# Altium schematic symbol library m68k.SchLib: 102 symbols (part 1 of 3)
Pins are listed as number, name and electrical type; pins without a type are passive.

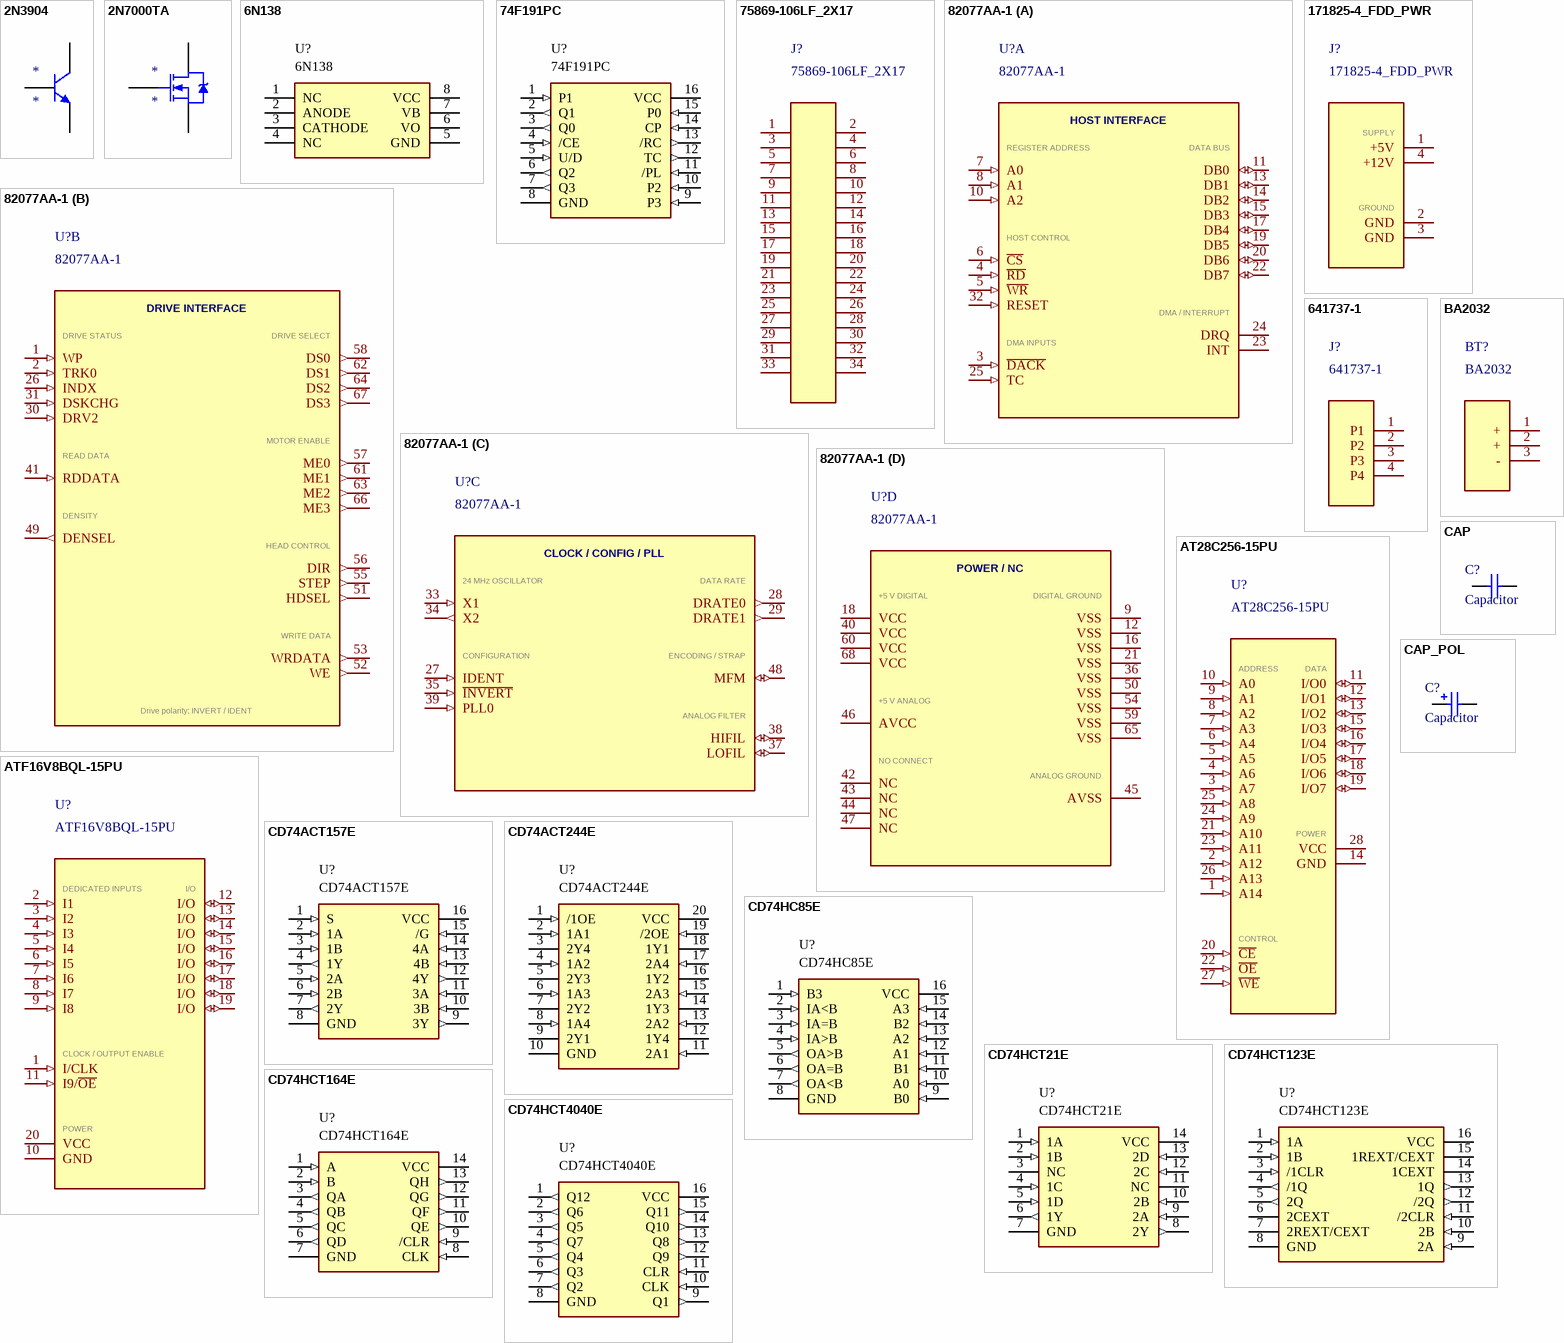
[diagram p0: symbols 2N3904 to CD74HCT4040E]

## 2N3904
designator *
footprint TO-92-3
pins: 1 E, 2 B, 3 C

## 2N7000TA
designator *
footprint TO-92-3
pins: 1 S, 2 G, 3 D

## 6N138
designator U?
High-gain optocoupler; SourcePDF: AV02-1359EN.pdf; SourcePages: 2; ReviewNotes: Output modeled as open collector; VB is analog base access.; ReviewStatus: DRAFT - user review pending; Package: DIP-8
footprint 110-93-308-41-001000 (Mill-Max 110 open-frame DIP socket; 8 pins; pitch 2.54mm; row 7.62mm; plated hole 0.80mm; pad 1.60mm; center origin)
pins: 1 NC, 2 ANODE, 3 CATHODE, 4 NC, 5 GND (power), 6 VO (oc), 7 VB, 8 VCC (power)

## 74F191PC
designator U?
Synchronous up/down binary counter; SourcePDF: fairchild-fast-1980.pdf; SourcePages: 116; ReviewNotes: Draft symbol; user pinout review pending.; ReviewStatus: DRAFT - user review pending; Package: DIP-16
footprint 110-93-316-41-001000 (Mill-Max 110 open-frame DIP socket; 16 pins; pitch 2.54mm; row 7.62mm; plated hole 0.80mm; pad 1.60mm; center origin)
pins: 1 P1 (in), 2 Q1 (out), 3 Q0 (out), 4 /CE (in), 5 U/D (in), 6 Q2 (out), 7 Q3 (out), 8 GND (power), 9 P3 (in), 10 P2 (in), 11 /PL (in), 12 TC (out), 13 /RC (out), 14 CP (in), 15 P0 (in), 16 VCC (power)

## 75869-106LF_2X17
designator J?
Amphenol FCI Quickie 75869-106LF shrouded header, 2x17 = 34 pos, 2.54 mm, vertical THT. Generic pin symbol: odd pins left, even pins right, as on the connector.; Manufacturer: Amphenol FCI; Manufacturer Part Number: 75869-106LF; Package: 2x17 shrouded header, 2.54 mm, keyed; Datasheet: Amphenol Quickie Shrouded Headers Low Profile brochure BWBQUICKIDC0122EA4
footprint AMPHENOL_75869-106LF (Amphenol FCI Quickie 75869-106LF shrouded header, low profile, vertical THT, 2x17 = 34 pos, 2.54 mm. Top view; origin = centre of pin field. Odd pins row at -Y, pin 1 at -X; polarization key slot on odd-row side.)
pins: 1 P1, 2 P2, 3 P3, 4 P4, 5 P5, 6 P6, 7 P7, 8 P8, 9 P9, 10 P10, 11 P11, 12 P12, 13 P13, 14 P14, 15 P15, 16 P16, 17 P17, 18 P18, 19 P19, 20 P20, 21 P21, 22 P22, 23 P23, 24 P24, 25 P25, 26 P26, 27 P27, 28 P28, 29 P29, 30 P30, 31 P31, 32 P32, 33 P33, 34 P34

## 82077AA-1
designator U?
Intel 82077AA-1 floppy-disk controller, 68-pin PLCC. Four functional symbol parts; all physical pins visible.; Symbol Parts: A: HOST; B: DRIVE; C: CLOCK / CONFIG / PLL; D: POWER / NC; Pin Source: Supplied 68-pin diagram; Intel 290166-007, Figure 1 and Table 1.; Polarity: Host CS, RD, WR, DACK are active-low. RESET is active-high. Drive-signal polarity is configurable. See pin descriptions.; Manufacturer: Intel; Manufacturer Part Number: 82077AA-1; Package: 68-pin PLCC; Datasheet: https://www.ardent-tool.com/datasheets/Intel_82077AA.pdf
footprint A-CCS-068-Z-T (Assmann A-CCS 068-Z-T, PLCC-68 THT socket for MC68EC000; ASS 0981 CO rev11; body 30.80 x 30.80 mm; 2.54 mm PCB grid; 68 plated 0.80 mm holes / 1.60 mm pads; pin 1 top center, top view; M2 component outline, M9 assembly, M11 designator, M15 courtyard; user component layer pairs; maximum height 8.43 mm.)
part A pins: 3 ~{DACK} (in), 4 ~{RD} (in), 5 ~{WR} (in), 6 ~{CS} (in), 7 A0 (in), 8 A1 (in), 10 A2 (in), 11 DB0 (io), 13 DB1 (io), 14 DB2 (io), 15 DB3 (io), 17 DB4 (io), 19 DB5 (io), 20 DB6 (io), 22 DB7 (io), 23 INT (hiz) "Gated three-state interrupt output.", 24 DRQ (hiz) "Gated three-state DMA request.", 25 TC (in) "Terminal count: high-active in AT/Model 30; low-active in PS/2.", 32 RESET (in) "Active-high hardware reset."
part B pins: 1 WP (in), 2 TRK0 (in), 26 INDX (in), 30 DRV2 (in), 31 DSKCHG (in), 41 RDDATA (in), 49 DENSEL (out) "Density-output polarity depends on IDENT and INVERT.", 51 HDSEL (out), 52 WE (out), 53 WRDATA (out), 55 STEP (out), 56 DIR (out), 57 ME0 (out), 58 DS0 (out), 61 ME1 (out), 62 DS1 (out), 63 ME2 (out), 64 DS2 (out), 66 ME3 (out), 67 DS3 (out)
part C pins: 27 IDENT (in) "Host-mode strap; also selects DENSEL polarity.", 28 DRATE0 (out), 29 DRATE1 (out), 33 X1 (in) "Crystal input or external clock input.", 34 X2 (out) "Crystal oscillator output; unused with external clock.", 35 ~{INVERT} (in) "Low selects internal cable inversion; high requires external inverting buffers.", 37 LOFIL (io) "Analog filter return, paired with HIFIL.", 38 HIFIL (io) "Analog reference; external filter capacitor to LOFIL.", 39 PLL0 (in) "High: floppy separator; low: tape separator.", 48 MFM (io) "Reset-time mode input; encoding-status output afterward."
part D pins: 9 VSS (power), 12 VSS (power), 16 VSS (power), 18 VCC (power), 21 VSS (power), 36 VSS (power), 40 VCC (power), 42 NC "Leave unconnected.", 43 NC "Leave unconnected.", 44 NC "Leave unconnected.", 45 AVSS (power), 46 AVCC (power), 47 NC "Leave unconnected.", 50 VSS (power), 54 VSS (power), 59 VSS (power), 60 VCC (power), 65 VSS (power), 68 VCC (power)
part A text: HOST INTERFACE; REGISTER ADDRESS; DATA BUS; HOST CONTROL; DMA / INTERRUPT; DMA INPUTS
part B text: DRIVE INTERFACE; DRIVE STATUS; DRIVE SELECT; MOTOR ENABLE; READ DATA; DENSITY; HEAD CONTROL; WRITE DATA; Drive polarity: INVERT / IDENT
part C text: CLOCK / CONFIG / PLL; 24 MHz OSCILLATOR; DATA RATE; CONFIGURATION; ENCODING / STRAP; ANALOG FILTER
part D text: POWER / NC; +5 V DIGITAL; DIGITAL GROUND; +5 V ANALOG; NO CONNECT; ANALOG GROUND

## 171825-4_FDD_PWR
designator J?
TE Connectivity (AMP) 171825-4 EI series 4-pos 2.5 mm vertical post header, mates with 171822-4. 3.5 in floppy drive power pinout.; Manufacturer: TE Connectivity; Manufacturer Part Number: 171825-4; Package: AMP EI 1x4 2.5 mm vertical THT; Datasheet: TE drawing C-171825 rev Y4
footprint TE_171825-4 (TE Connectivity (AMP) 171825-4 EI series post header, 4 pos, 2.5 mm, vertical THT. Top view; origin = centre of pin row; latch wall at +Y; pin 1 at -X (end not defined on TE drawing - verify against mating 171822-4 cable).)
pins: 1 +5V "+5 V to drive (red wire)", 2 GND "Ground (black wire)", 3 GND "Ground (black wire)", 4 +12V "+12 V to drive (yellow wire)"
text: SUPPLY; GROUND

## 641737-1
designator J?
TE Connectivity Commercial MATE-N-LOK PC header, right angle, 4 circuits, 0.200 in pitch, through-hole; Pin Source: TE drawing 641737 rev G2, front view contact numbering 1-4; Manufacturer: TE Connectivity; Manufacturer Part Number: 641737-1; Package: RA THT header, 4 pos, 5.08 mm pitch; Datasheet: TE customer drawing 641737 rev G2 (ECR-21-117185, 20OCT2021)
footprint TE_641737-1 (TE 641737-1 Commercial MATE-N-LOK RA PC header, 4 pos, 5.08 mm pitch, THT, for 1.6 mm (0.062 in) PCB)
pins: 1 P1, 2 P2, 3 P3, 4 P4

## AT28C256-15PU
designator U?
256K (32K x 8) Paged Parallel EEPROM, 150ns, 28-lead PDIP; Manufacturer: Microchip (Atmel); Manufacturer Part Number: AT28C256-15PU; Package: 28-lead PDIP; Datasheet: https://ww1.microchip.com/downloads/en/DeviceDoc/doc0006.pdf
footprint 110-93-624-41-001000 (Mill-Max 110 open-frame DIP socket; 24 pins; pitch 2.54mm; row 15.24mm; plated hole 0.80mm; pad 1.60mm; center origin)
pins: 1 A14 (in), 2 A12 (in), 3 A7 (in), 4 A6 (in), 5 A5 (in), 6 A4 (in), 7 A3 (in), 8 A2 (in), 9 A1 (in), 10 A0 (in), 11 I/O0 (io), 12 I/O1 (io), 13 I/O2 (io), 14 GND (power), 15 I/O3 (io), 16 I/O4 (io), 17 I/O5 (io), 18 I/O6 (io), 19 I/O7 (io), 20 ~{CE} (in) "Chip Enable, active low", 21 A10 (in), 22 ~{OE} (in) "Output Enable, active low", 23 A11 (in), 24 A9 (in), 25 A8 (in), 26 A13 (in), 27 ~{WE} (in) "Write Enable, active low", 28 VCC (power)
text: ADDRESS; DATA; POWER; CONTROL

## ATF16V8BQL-15PU
designator U?
High-performance EE PLD (PAL/GAL-architecture programmable logic, 8 inputs, 8 I/O macrocells), 15ns, quarter-power, 20-lead PDIP, Pb-free/RoHS (Green) package option; Manufacturer: Atmel / Microchip Technology; Manufacturer Part Number: ATF16V8BQL-15PU; Package: 20-lead, 0.300" wide plastic DIP (PDIP); Datasheet: Atmel-0364-PLD-ATF16V8B-8BQ-8BQL-Datasheet (ATF16V8B/ATF16V8BQ/ATF16V8BQL), Figure 2-2 Pin Configurations and Table 2-1 Pin Name / Ordering Information sections
footprint 110-93-320-41-001000 (Mill-Max 110 open-frame DIP socket; 20 pins; pitch 2.54mm; row 7.62mm; plated hole 0.80mm; pad 1.60mm; center origin)
pins: 1 I/CLK (in) "Dedicated input (combinatorial mode) or synchronous clock (registered mode)", 2 I1 (in), 3 I2 (in), 4 I3 (in), 5 I4 (in), 6 I5 (in), 7 I6 (in), 8 I7 (in), 9 I8 (in), 10 GND (power), 11 I9/~{OE} (in) "Dedicated input I9 (combinatorial mode) or Output Enable (registered mode) gating all 8 I/O tri-states. Active-low per universal 16V8-family convention, not explicitly stated in this datasheet", 12 I/O (io) "Programmable macrocell I/O; direction/polarity set by the fuse/EE program. Datasheet labels all 8 generically as I/O, no per-pin suffix", 13 I/O (io), 14 I/O (io), 15 I/O (io), 16 I/O (io), 17 I/O (io), 18 I/O (io), 19 I/O (io), 20 VCC (power) "+5V supply"
text: DEDICATED INPUTS; CLOCK / OUTPUT ENABLE; POWER

## BA2032
designator BT?
Memory Protection Devices (MPD) BA2032 coin cell holder for CR2032, THT. Pins 1 and 2 are the two positive-contact tails; pin 3 is the negative contact.; Manufacturer: Memory Protection Devices; Manufacturer Part Number: BA2032; Package: Coin cell holder 28.0 x 16.0 mm, 3 pin THT; Datasheet: MPD drawing BA2032 rev L, 08/17/22
footprint MPD_BA2032 (MPD BA2032 CR2032 coin cell holder, THT. Top view; origin = body centre; negative at -X, positive (2 tails) at +X.)
pins: 1 + "Positive contact (tail 1 of 2)", 2 + "Positive contact (tail 2 of 2)", 3 - "Negative contact"

## CAP
designator C?, comment Capacitor
pins: 1, 2

## CAP_POL
designator C?, comment Capacitor
pins: +, -

## CD74ACT157E
designator U?
Quad 2-to-1 multiplexer; SourcePDF: cd74act157.pdf; SourcePages: 3; ReviewNotes: DIP map; review active-low notation and electrical types before PCB use.; ReviewStatus: DRAFT - user review pending; Package: DIP-16
footprint 110-93-316-41-001000 (Mill-Max 110 open-frame DIP socket; 16 pins; pitch 2.54mm; row 7.62mm; plated hole 0.80mm; pad 1.60mm; center origin)
pins: 1 S (in), 2 1A (in), 3 1B (in), 4 1Y (out), 5 2A (in), 6 2B (in), 7 2Y (out), 8 GND (power), 9 3Y (out), 10 3B (in), 11 3A (in), 12 4Y (out), 13 4B (in), 14 4A (in), 15 /G (in), 16 VCC (power)

## CD74ACT244E
designator U?
Octal non-inverting tri-state buffer; SourcePDF: cd74act244.pdf; SourcePages: 3; ReviewNotes: DIP map; review active-low notation and electrical types before PCB use.; ReviewStatus: DRAFT - user review pending; Package: DIP-20
footprint 110-93-320-41-001000 (Mill-Max 110 open-frame DIP socket; 20 pins; pitch 2.54mm; row 7.62mm; plated hole 0.80mm; pad 1.60mm; center origin)
pins: 1 /1OE (in), 2 1A1 (in), 3 2Y4 (hiz), 4 1A2 (in), 5 2Y3 (hiz), 6 1A3 (in), 7 2Y2 (hiz), 8 1A4 (in), 9 2Y1 (hiz), 10 GND (power), 11 2A1 (in), 12 1Y4 (hiz), 13 2A2 (in), 14 1Y3 (hiz), 15 2A3 (in), 16 1Y2 (hiz), 17 2A4 (in), 18 1Y1 (hiz), 19 /2OE (in), 20 VCC (power)

## CD74HC85E
designator U?
4-bit magnitude comparator; SourcePDF: cd74hc85.pdf; SourcePages: 3; ReviewNotes: DIP map; review active-low notation and electrical types before PCB use.; ReviewStatus: DRAFT - user review pending; Package: DIP-16
footprint 110-93-316-41-001000 (Mill-Max 110 open-frame DIP socket; 16 pins; pitch 2.54mm; row 7.62mm; plated hole 0.80mm; pad 1.60mm; center origin)
pins: 1 B3 (in), 2 IA<B (in), 3 IA=B (in), 4 IA>B (in), 5 OA>B (out), 6 OA=B (out), 7 OA<B (out), 8 GND (power), 9 B0 (in), 10 A0 (in), 11 B1 (in), 12 A1 (in), 13 A2 (in), 14 B2 (in), 15 A3 (in), 16 VCC (power)

## CD74HCT21E
designator U?
Dual 4-input AND; SourcePDF: cd74hct21.pdf; SourcePages: 3; ReviewNotes: DIP map; review active-low notation and electrical types before PCB use.; ReviewStatus: DRAFT - user review pending; Package: DIP-14
footprint 110-93-314-41-001000 (Mill-Max 110 open-frame DIP socket; 14 pins; pitch 2.54mm; row 7.62mm; plated hole 0.80mm; pad 1.60mm; center origin)
pins: 1 1A (in), 2 1B (in), 3 NC, 4 1C (in), 5 1D (in), 6 1Y (out), 7 GND (power), 8 2Y (out), 9 2A (in), 10 2B (in), 11 NC, 12 2C (in), 13 2D (in), 14 VCC (power)

## CD74HCT123E
designator U?
Dual retriggerable monostable; SourcePDF: cd74hc123.pdf; SourcePages: pin configuration; ReviewNotes: Draft symbol; user pinout review pending.; ReviewStatus: DRAFT - user review pending; Package: DIP-16
footprint 110-93-316-41-001000 (Mill-Max 110 open-frame DIP socket; 16 pins; pitch 2.54mm; row 7.62mm; plated hole 0.80mm; pad 1.60mm; center origin)
pins: 1 1A (in), 2 1B (in), 3 /1CLR (in), 4 /1Q (out), 5 2Q (out), 6 2CEXT, 7 2REXT/CEXT, 8 GND (power), 9 2A (in), 10 2B (in), 11 /2CLR (in), 12 /2Q (out), 13 1Q (out), 14 1CEXT, 15 1REXT/CEXT, 16 VCC (power)

## CD74HCT164E
designator U?
8-bit serial-in parallel-out shift register; SourcePDF: cd74hc164.pdf; SourcePages: pin configuration; ReviewNotes: Draft symbol; user pinout review pending.; ReviewStatus: DRAFT - user review pending; Package: DIP-14
footprint 110-93-314-41-001000 (Mill-Max 110 open-frame DIP socket; 14 pins; pitch 2.54mm; row 7.62mm; plated hole 0.80mm; pad 1.60mm; center origin)
pins: 1 A (in), 2 B (in), 3 QA (out), 4 QB (out), 5 QC (out), 6 QD (out), 7 GND (power), 8 CLK (in), 9 /CLR (in), 10 QE (out), 11 QF (out), 12 QG (out), 13 QH (out), 14 VCC (power)

## CD74HCT4040E
designator U?
12-stage binary ripple counter; SourcePDF: cd74hct4040.pdf; SourcePages: 3; ReviewNotes: DIP map; review active-low notation and electrical types before PCB use.; ReviewStatus: DRAFT - user review pending; Package: DIP-16
footprint 110-93-316-41-001000 (Mill-Max 110 open-frame DIP socket; 16 pins; pitch 2.54mm; row 7.62mm; plated hole 0.80mm; pad 1.60mm; center origin)
pins: 1 Q12 (out), 2 Q6 (out), 3 Q5 (out), 4 Q7 (out), 5 Q4 (out), 6 Q3 (out), 7 Q2 (out), 8 GND (power), 9 Q1 (out), 10 CLK (in), 11 CLR (in), 12 Q9 (out), 13 Q8 (out), 14 Q10 (out), 15 Q11 (out), 16 VCC (power)

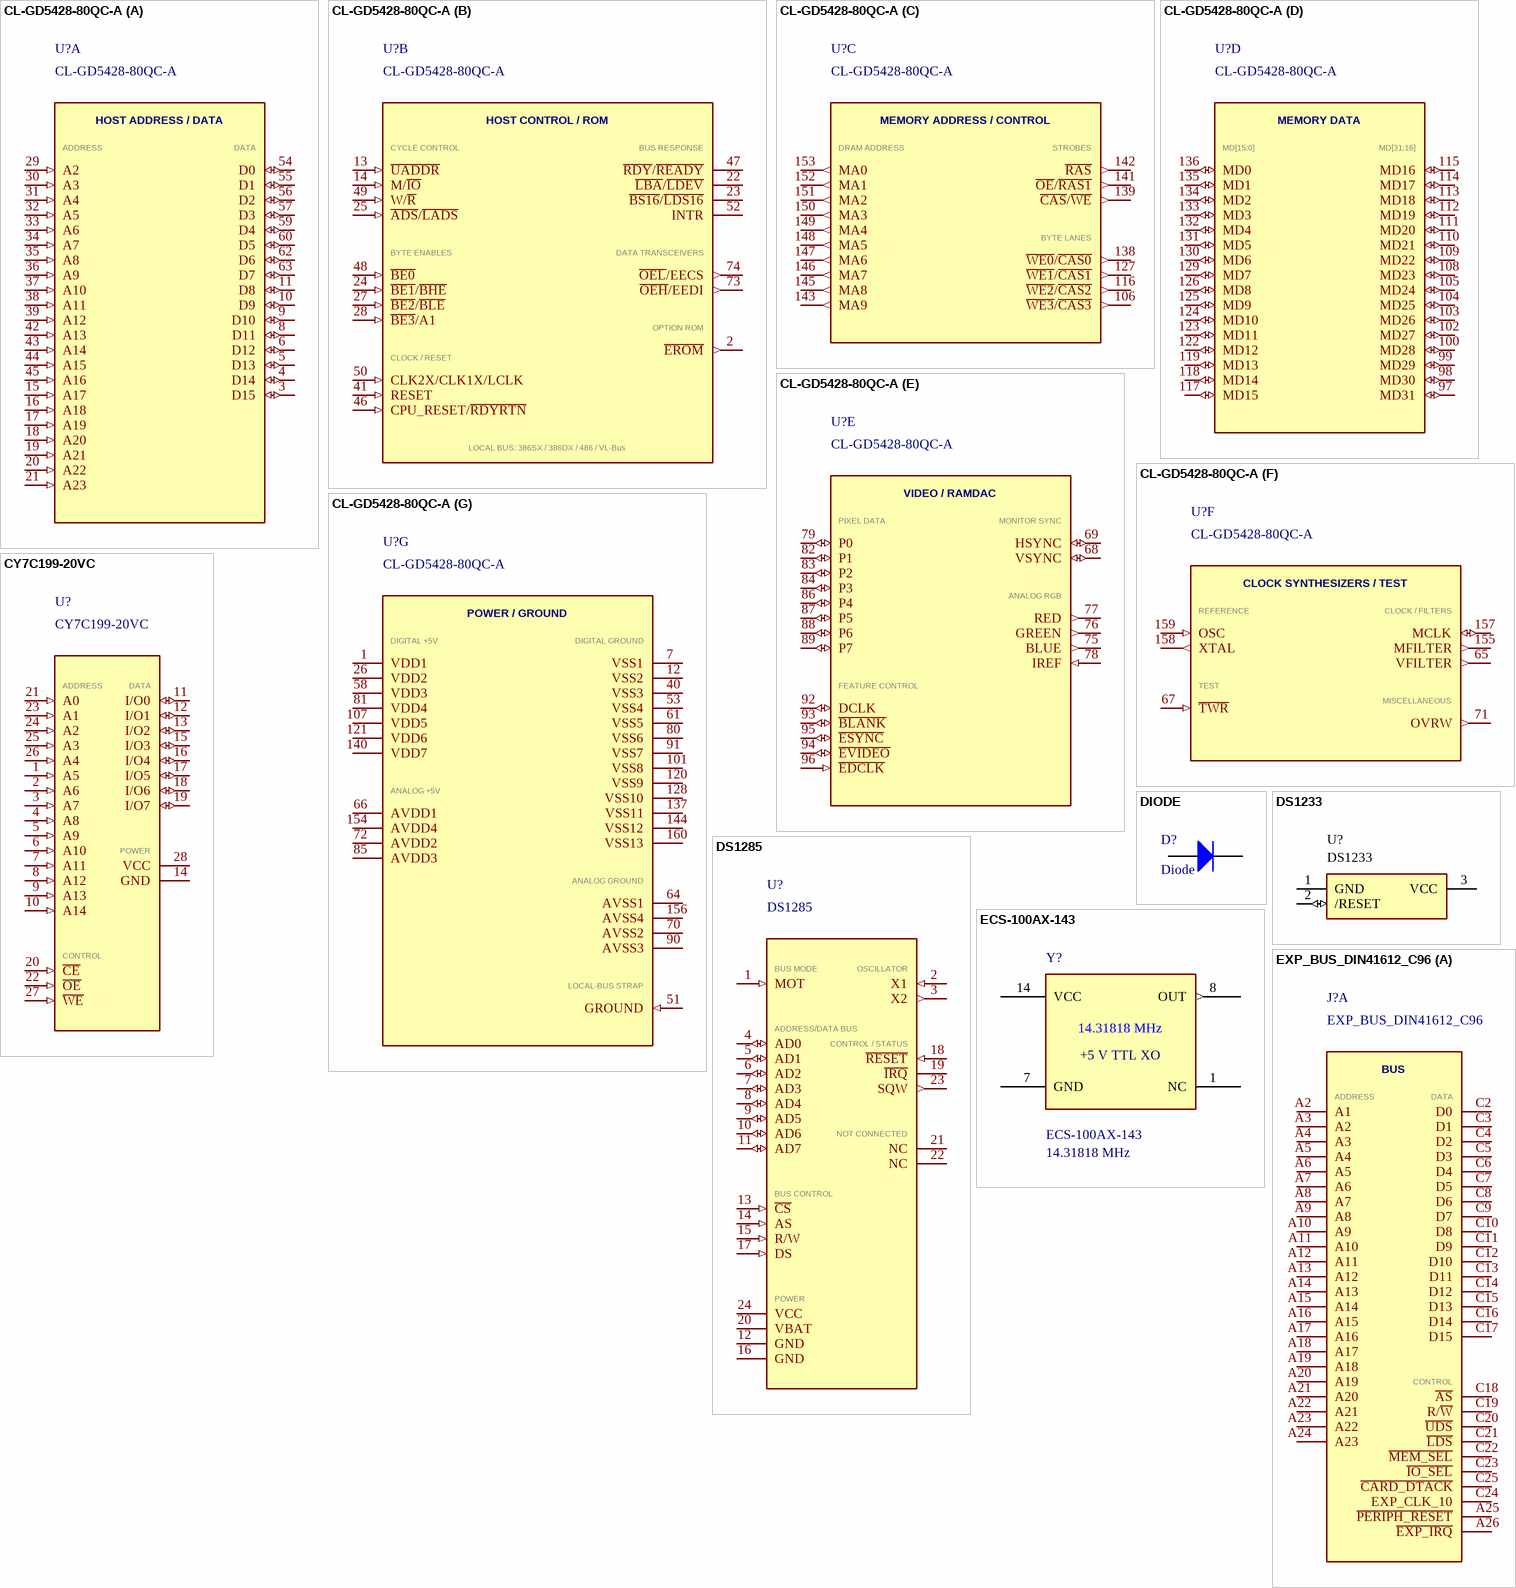
[diagram p1: symbols CL-GD5428-80QC-A to EXP_BUS_DIN41612_C96]

## CL-GD5428-80QC-A
designator U?
Cirrus Logic CL-GD5428-80QC-A, 160-pin PQFP; local-bus interface with 386SX/386DX/486/VL-Bus aliases; seven functional parts.; Symbol Parts: A: HOST ADDRESS / DATA; B: HOST CONTROL / ROM; C: MEMORY ADDRESS / CONTROL; D: MEMORY DATA; E: VIDEO / RAMDAC; F: CLOCK SYNTHESIZERS / TEST; G: POWER / GROUND; Host Interface: Local bus (386SX, 386DX, 486, VESA VL-Bus); not ISA/MCA pin functions.; Pin Source: User-supplied pin tables 1-2 through 1-7; electrical types refined using detailed descriptions for GD5428.; Manufacturer: Cirrus Logic; Manufacturer Part Number: CL-GD5428-80QC-A; Package: 160-pin PQFP; Datasheet: https://bitsavers.trailing-edge.com/components/cirrusLogic/graphics/CL-GD542X_Preliminary_Data_Book_199505.pdf
footprint QFP65P3120X3120X407-160N (QFP, 160-Leads, Body 28.00x28.00mm, Pitch 0.65mm, IPC Medium Density)
part A pins: 3 D15 (io), 4 D14 (io), 5 D13 (io), 6 D12 (io), 8 D11 (io), 9 D10 (io), 10 D9 (io), 11 D8 (io), 15 A17 (in), 16 A18 (in), 17 A19 (in), 18 A20 (in), 19 A21 (in), 20 A22 (in), 21 A23 (in), 29 A2 (in), 30 A3 (in), 31 A4 (in), 32 A5 (in), 33 A6 (in), 34 A7 (in), 35 A8 (in), 36 A9 (in), 37 A10 (in), 38 A11 (in), 39 A12 (in), 42 A13 (in), 43 A14 (in), 44 A15 (in), 45 A16 (in), 54 D0 (io), 55 D1 (io), 56 D2 (io), 57 D3 (io), 59 D4 (io), 60 D5 (io), 62 D6 (io), 63 D7 (io)
part B pins: 2 ~{EROM} (out) "Active-low expansion ROM enable.", 13 ~{UADDR} (in) "Unused in 386SX mode; upper-address decode input in 386DX/486/VL-Bus modes.", 14 M/~{IO} (in) "High selects memory; low selects I/O.", 22 ~{LBA}/~{LDEV} (oc) "Open-collector local bus acknowledge; LDEV# in VL-Bus mode.", 23 ~{BS16}/~{LDS16} (oc) "Open-collector 16-bit resource indication. Unused in 386SX; LDS16# in table 1-2 VL-Bus column.", 24 ~{BE1}/~{BHE} (in) "BE1# in 386DX/486/VL-Bus; BHE# in 386SX.", 25 ~{ADS}/~{LADS} (in) "ADS# in 386SX/386DX/486 modes; LADS# in VL-Bus mode.", 27 ~{BE2}/~{BLE} (in) "BE2# in 386DX/486/VL-Bus; BLE# in 386SX.", 28 ~{BE3}/A1 (in) "BE3# in 386DX/486/VL-Bus; A1 in 386SX.", 41 RESET (in) "Active-high configuration reset; falling edge latches configuration from MD30..MD16.", 46 CPU_RESET/~{RDYRTN} (in) "CPU reset in 386SX/DX; tie to GND in 486 mode; RDYRTN# in VL-Bus.", 47 ~{RDY}/~{READY} (hiz) "READY# in 386SX/DX; RDY# in 486/VL-Bus. Tri-state cycle-completion output.", 48 ~{BE0} (in) "Unused in 386SX mode.", 49 W/~{R} (in) "High selects write; low selects read.", 50 CLK2X/CLK1X/LCLK (in) "CLK2X: 386SX/DX; CLK1X: 486; LCLK: VL-Bus.", 52 INTR (hiz) "Active-high vertical interrupt; tri-state output.", 73 ~{OEH}/EEDI (out) "Local-bus high-word data-transceiver output enable. EEDI is an INPUT only in ISA/MCA modes.", 74 ~{OEL}/EECS (out) "Local-bus low-word data-transceiver output enable. EECS function is for ISA/MCA modes."
part C pins: 106 ~{WE3}/~{CAS3} (out) "WE3#; becomes CAS3# with multiple-CAS DRAMs.", 116 ~{WE2}/~{CAS2} (out) "WE2#; becomes CAS2# with multiple-CAS DRAMs.", 127 ~{WE1}/~{CAS1} (out) "WE1#; becomes CAS1# with multiple-CAS DRAMs.", 138 ~{WE0}/~{CAS0} (out) "WE0#; becomes CAS0# with multiple-CAS DRAMs.", 139 ~{CAS}/~{WE} (out) "Column-address strobe; becomes WE# with multiple-CAS DRAMs.", 141 ~{OE}/~{RAS1} (out) "Output enable; becomes RAS1# for 2-Mbyte configurations.", 142 ~{RAS} (out) "DRAM row-address strobe; RAS0# for two-bank memory.", 143 MA9 (out), 145 MA8 (out), 146 MA7 (out), 147 MA6 (out), 148 MA5 (out), 149 MA4 (out), 150 MA3 (out), 151 MA2 (out), 152 MA1 (out), 153 MA0 (out)
part D pins: 97 MD31 (io) "Display-memory data; MD30..MD16 also provide reset-time configuration straps.", 98 MD30 (io) "Display-memory data; MD30..MD16 also provide reset-time configuration straps.", 99 MD29 (io) "Display-memory data; MD30..MD16 also provide reset-time configuration straps.", 100 MD28 (io) "Display-memory data; MD30..MD16 also provide reset-time configuration straps.", 102 MD27 (io) "Display-memory data; MD30..MD16 also provide reset-time configuration straps.", 103 MD26 (io) "Display-memory data; MD30..MD16 also provide reset-time configuration straps.", 104 MD25 (io) "Display-memory data; MD30..MD16 also provide reset-time configuration straps.", 105 MD24 (io) "Display-memory data; MD30..MD16 also provide reset-time configuration straps.", 108 MD23 (io) "Display-memory data; MD30..MD16 also provide reset-time configuration straps.", 109 MD22 (io) "Display-memory data; MD30..MD16 also provide reset-time configuration straps.", 110 MD21 (io) "Display-memory data; MD30..MD16 also provide reset-time configuration straps.", 111 MD20 (io) "Display-memory data; MD30..MD16 also provide reset-time configuration straps.", 112 MD19 (io) "Display-memory data; MD30..MD16 also provide reset-time configuration straps.", 113 MD18 (io) "Display-memory data; MD30..MD16 also provide reset-time configuration straps.", 114 MD17 (io) "Display-memory data; MD30..MD16 also provide reset-time configuration straps.", 115 MD16 (io) "Display-memory data; MD30..MD16 also provide reset-time configuration straps.", 117 MD15 (io), 118 MD14 (io), 119 MD13 (io), 122 MD12 (io), 123 MD11 (io), 124 MD10 (io), 125 MD9 (io), 126 MD8 (io), 129 MD7 (io), 130 MD6 (io), 131 MD5 (io), 132 MD4 (io), 133 MD3 (io), 134 MD2 (io), 135 MD1 (io), 136 MD0 (io)
part E pins: 68 VSYNC (io) "Programmable-polarity vertical sync; I/O per table 1-4. Output buffer is high impedance when ESYNC# is low.", 69 HSYNC (io) "Programmable-polarity horizontal sync; I/O per table 1-4. Output buffer is high impedance when ESYNC# is low.", 75 BLUE (out) "Analog blue current output.", 76 GREEN (out) "Analog green current output.", 77 RED (out) "Analog red current output.", 78 IREF (in) "Analog DAC current-reference input.", 79 P0 (io), 82 P1 (io), 83 P2 (io), 84 P3 (io), 86 P4 (io), 87 P5 (io), 88 P6 (io), 89 P7 (io), 92 DCLK (io) "Bidirectional feature-connector dot clock.", 93 ~{BLANK} (io) "Bidirectional blanking signal.", 94 ~{EVIDEO} (io) "External pixel-video buffer control; I/O classification follows table 1-4. Normally used as an input.", 95 ~{ESYNC} (io) "External sync/blank buffer control; I/O classification follows table 1-4. Normally used as an input on GD5428.", 96 ~{EDCLK} (in) "Active-low enable for external dot clock."
part F pins: 65 VFILTER (out) "Analog video-clock PLL filter connection.", 67 ~{TWR} (in) "Active-low factory-test latch load enable; pull high for normal operation.", 71 OVRW (out) "Active-high overlay-window output.", 155 MFILTER (out) "Analog memory-clock PLL filter connection.", 157 MCLK (io) "Memory clock output normally; input when configuration CF4 disables the internal oscillator.", 158 XTAL (out) "Crystal oscillator analog output on CL-GD5428. TTL input mode is CL-GD5425-only.", 159 OSC (in) "Reference oscillator input; crystal connects between OSC and XTAL."
part G pins: 1 VDD1 (power), 7 VSS1 (power), 12 VSS2 (power), 26 VDD2 (power), 40 VSS3 (power), 51 GROUND (in) "Tie to GND in every local-bus mode. This is the repurposed ISA 0WS pin, not a digital VSS supply pin.", 53 VSS4 (power), 58 VDD3 (power), 61 VSS5 (power), 64 AVSS1 (power) "Video-clock synthesizer ground.", 66 AVDD1 (power) "Video-clock synthesizer supply.", 70 AVSS2 (power) "DAC ground.", 72 AVDD2 (power) "DAC supply.", 80 VSS6 (power), 81 VDD4 (power), 85 AVDD3 (power) "DAC supply.", 90 AVSS3 (power) "DAC ground.", 91 VSS7 (power), 101 VSS8 (power), 107 VDD5 (power), 120 VSS9 (power), 121 VDD6 (power), 128 VSS10 (power), 137 VSS11 (power), 140 VDD7 (power), 144 VSS12 (power), 154 AVDD4 (power) "Memory-clock synthesizer supply.", 156 AVSS4 (power) "Memory-clock synthesizer ground.", 160 VSS13 (power)
part A text: HOST ADDRESS / DATA; ADDRESS; DATA
part B text: HOST CONTROL / ROM; CYCLE CONTROL; BUS RESPONSE; BYTE ENABLES; DATA TRANSCEIVERS; OPTION ROM; CLOCK / RESET; LOCAL BUS: 386SX / 386DX / 486 / VL-Bus
part C text: MEMORY ADDRESS / CONTROL; DRAM ADDRESS; STROBES; BYTE LANES
part D text: MEMORY DATA; MD[15:0]; MD[31:16]
part E text: VIDEO / RAMDAC; PIXEL DATA; MONITOR SYNC; ANALOG RGB; FEATURE CONTROL
part F text: CLOCK SYNTHESIZERS / TEST; REFERENCE; CLOCK / FILTERS; TEST; MISCELLANEOUS
part G text: POWER / GROUND; DIGITAL +5V; DIGITAL GROUND; ANALOG +5V; ANALOG GROUND; LOCAL-BUS STRAP

## CY7C199-20VC
designator U?
32K x 8 CMOS Static RAM, 20 ns, commercial, 28-pin 300-mil SOJ; Manufacturer: Cypress Semiconductor; Manufacturer Part Number: CY7C199-20VC; Package: SOJ-28 (300 mil)
footprint SOJ127P864X419-28M (SOJ, 28-Leads, Body 18.11x8.64mm, Pitch 1.27mm, IPC Low Density)
pins: 1 A5 (in), 2 A6 (in), 3 A7 (in), 4 A8 (in), 5 A9 (in), 6 A10 (in), 7 A11 (in), 8 A12 (in), 9 A13 (in), 10 A14 (in), 11 I/O0 (io) "High impedance unless the chip is selected, outputs enabled and WE HIGH", 12 I/O1 (io), 13 I/O2 (io), 14 GND (power), 15 I/O3 (io), 16 I/O4 (io), 17 I/O5 (io), 18 I/O6 (io), 19 I/O7 (io), 20 ~{CE} (in) "Chip enable, active LOW; device powers down when deselected", 21 A0 (in), 22 ~{OE} (in) "Output enable, active LOW", 23 A1 (in), 24 A2 (in), 25 A3 (in), 26 A4 (in), 27 ~{WE} (in) "Write enable, active LOW; write occurs when CE and WE are both LOW", 28 VCC (power)
text: ADDRESS; DATA; POWER; CONTROL

## DIODE
designator D?, comment Diode
pins: 1 A, 2 K

## DS1233
designator U?
5 V reset supervisor; SourcePDF: ds1233.pdf; SourcePages: 1; ReviewNotes: RESET is bidirectional: open-drain reset output plus pushbutton input.; ReviewStatus: DRAFT - user review pending; Package: TO-92
footprint TO-92-3
pins: 1 GND (power), 2 /RESET (io), 3 VCC (power)

## DS1285
designator U?
Real-Time Clock plus extended NV RAM, MC146818A/DS1287 bus-compatible (requires external 32.768kHz crystal and backup battery); Manufacturer: Dallas Semiconductor; Manufacturer Part Number: DS1285; Package: 24-pin plastic DIP (PDIP); Datasheet: https://www.analog.com/media/en/technical-documentation/data-sheets/DS12885-DS12C887A.pdf (pin-compatible successor family datasheet, PDIP pin table; base DS1285/DS1287 lacks the integrated crystal/battery so X1/X2/VBAT are active rather than N.C./internally-connected)
footprint 110-93-624-41-001000 (Mill-Max 110 open-frame DIP socket; 24 pins; pitch 2.54mm; row 15.24mm; plated hole 0.80mm; pad 1.60mm; center origin)
pins: 1 MOT (in) "Motorola/Intel bus timing selector, internal pulldown. Tied to VCC = Motorola timing; tied to GND or left open = Intel timing", 2 X1 (in) "32.768kHz crystal connection / input to oscillator; can accept an external oscillator signal", 3 X2 (out) "32.768kHz crystal connection / oscillator output; left unconnected if an external oscillator drives X1", 4 AD0 (io), 5 AD1 (io), 6 AD2 (io), 7 AD3 (io), 8 AD4 (io), 9 AD5 (io), 10 AD6 (io), 11 AD7 (io), 12 GND (power), 13 ~{CS} (in) "Chip select, active low. Must be held active during DS and AS (Motorola timing) or during DS and R/W (Intel timing)", 14 AS (in) "Address strobe, positive-going pulse; falling edge latches the address", 15 R/W (in) "Read/Write, mode-dependent: Motorola timing - high during DS = read, low during DS = write; Intel timing - active-low write enable, data latched on rising edge", 16 GND (power), 17 DS (in) "Data Strobe (Motorola timing, positive pulse) or Read/Output-Enable (Intel timing), depending on MOT", 18 ~{RESET} (in) "Active low reset; has no effect on the clock, calendar, or RAM contents", 19 ~{IRQ} (oc) "Active low interrupt request, open-drain output, requires external pull-up", 20 VBAT (power) "External battery backup supply", 21 NC "No connection on DS1285; reused as RCLR (RAM clear) on later A-suffix family variants", 22 NC "No connection", 23 SQW (out) "Square-wave output, selectable from one of 13 internal divider taps", 24 VCC (power)
text: BUS MODE; OSCILLATOR; ADDRESS/DATA BUS; CONTROL / STATUS; NOT CONNECTED; BUS CONTROL; POWER

## ECS-100AX-143
designator Y?  value 14.31818 MHz
Oscillator, XO 14.31818 MHz, +/-100 ppm, +5 V TTL, 10 TTL load, 14-DIP full size metal can, 4 leads, 0 to +70 C; Manufacturer: ECS Inc.; Frequency Stability: +/-100 ppm (0 to +70 C, inclusive of all conditions); Output Load: 10 TTL; Supply Voltage: 4.75 V to 5.25 V (5.0 V nom); Supply Current: 30 mA max; Output Symmetry: 40 % to 60 % at 1.4 V; Rise / Fall Time: 10 ns max (0.4 V to 2.4 V); Start-Up Time: 20 ms max; Manufacturer Part Number: ECS-100AX-143; Series: ECS-100X; Frequency: 14.31818 MHz; Output Type: TTL; Operating Temperature: 0 C to +70 C; Storage Temperature: -55 C to +125 C; Package / Case: 14-DIP, 4 leads, full size metal can; Mounting Type: Through Hole; Height: 5.88 mm max above board; RoHS: Compliant, Pb-free; Lifecycle Status: Not recommended for new designs (per datasheet); Component Kind: Standard; ComponentLink1Description: Manufacturer product page / datasheet; ComponentLink1URL: https://ecsxtal.com/products/oscillators/through-hole-oscillators/ecs-100x/; HelpURL: https://ecsxtal.com/products/oscillators/through-hole-oscillators/ecs-100x/
footprint OSC-DIP14-FULLSIZE (Clock oscillator, full size 14-DIP metal can, 4 leads on the 0.600" x 0.300" DIP-14 grid (pins 1, 7, 8, 14), body 20.86 x 13.20 x 5.08 mm)
pins: 1 NC "No connect", 7 GND (power) "Case ground (metal can)", 8 OUT (out) "TTL clock output", 14 VCC (power) "+5 VDC supply"
text: +5 V TTL XO

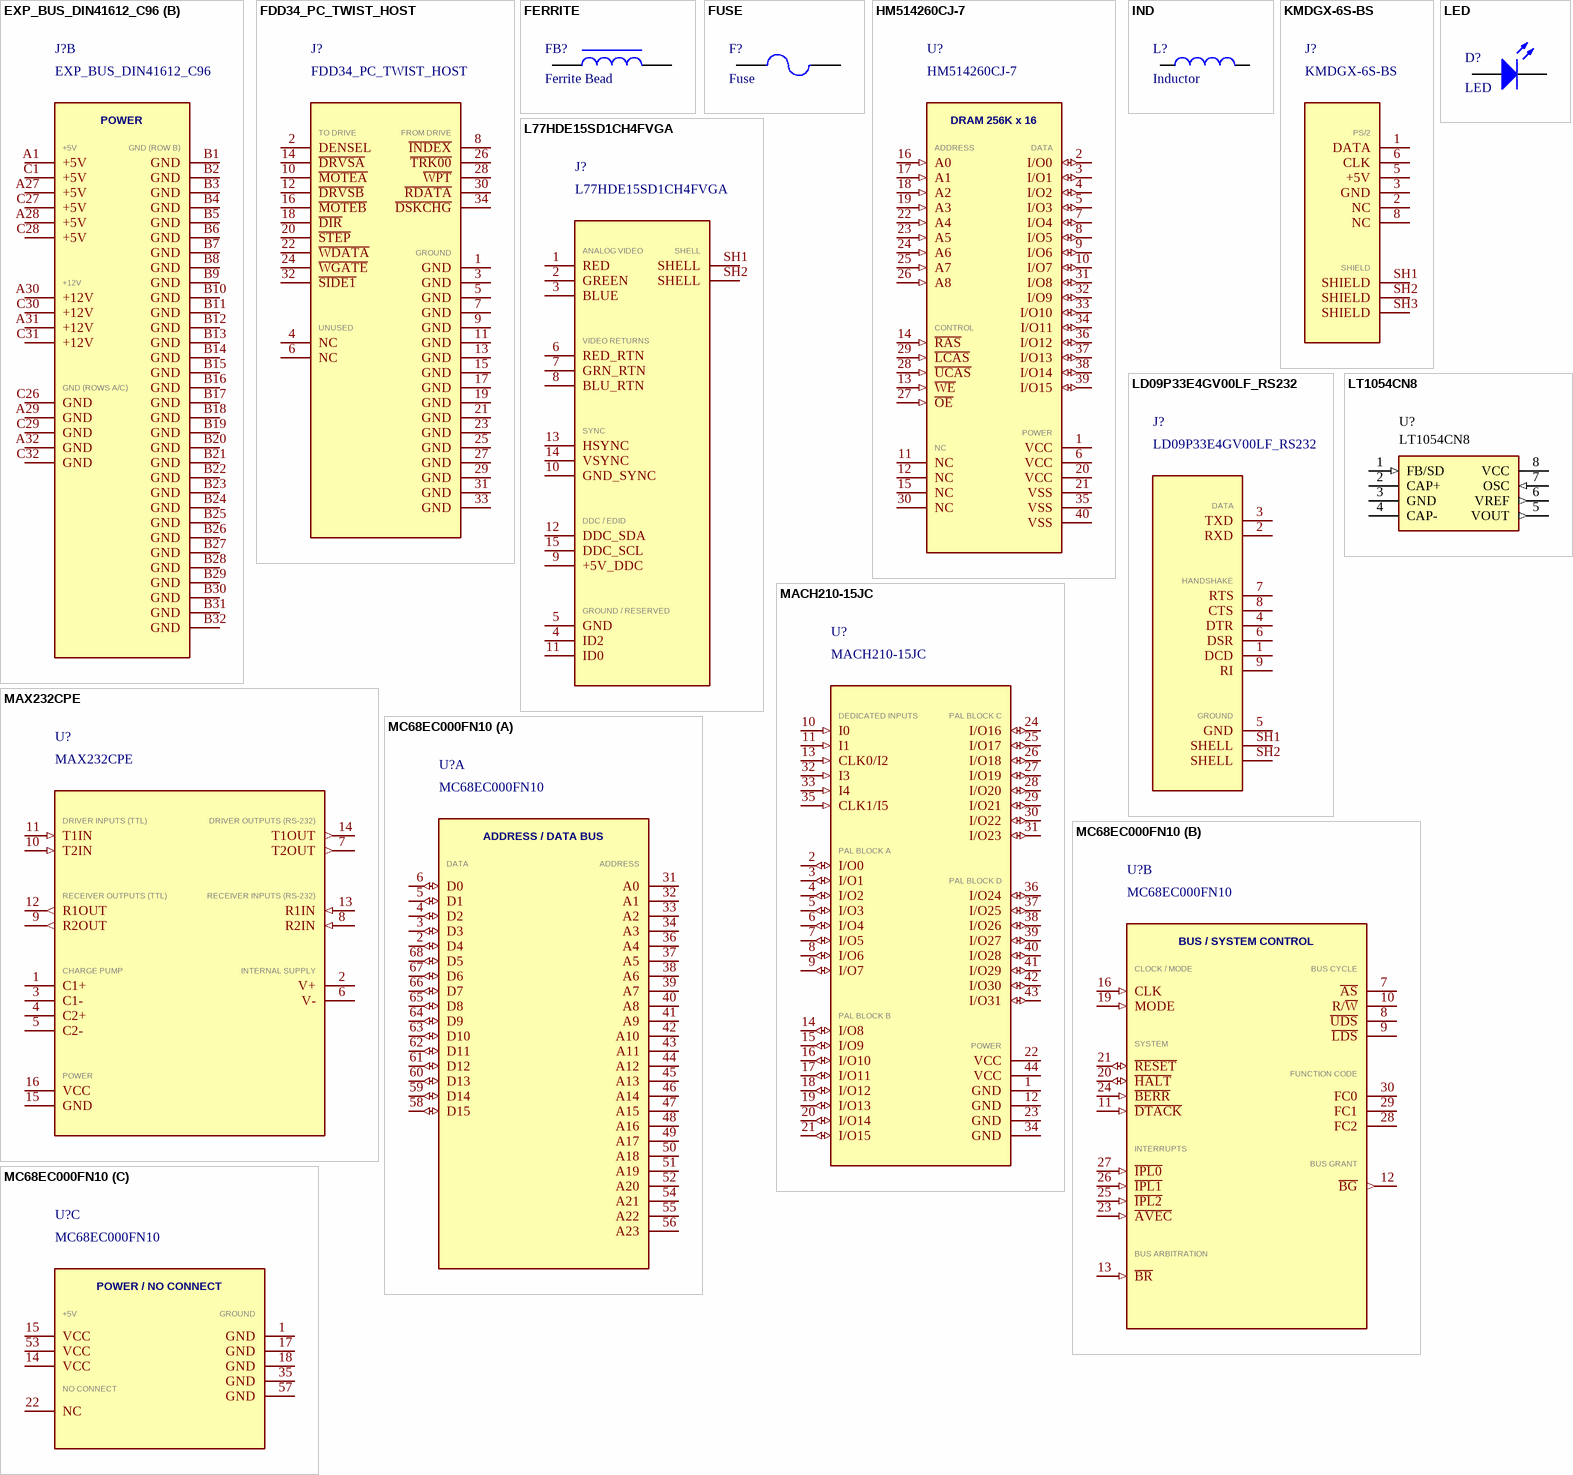
[diagram p2: symbols EXP_BUS_DIN41612_C96 to MC68EC000FN10]

## EXP_BUS_DIN41612_C96
designator J?
68000 expansion card interface, DIN 41612 Type C 96-way (rows a/b/c x 32). Used for J_EXP1 and J_EXP2. Pin numbers = row letter + position, mating-interface view.; Symbol Parts: A: BUS; B: POWER; Pin Source: Connector Pinout section 6 of the expansion interface spec supplied by the user; Manufacturer Part Number: EXP_BUS_DIN41612_C96; Package: DIN 41612 Type C, 3x32
footprint HARTING_09032962824 (HARTING 09 03 296 2824, DIN 41612 type C female, 96-pole, straight solder contacts, perf. level 1. Drawing 0903296X824 rev C. Top view; origin = centre of contact field on row b. Pads A/B/C = rows a/b/c, 1-32 = position; position 1 at +X, row a at +Y.)
part A pins: A2 A1 "Row a, position 2", A3 A2 "Row a, position 3", A4 A3 "Row a, position 4", A5 A4 "Row a, position 5", A6 A5 "Row a, position 6", A7 A6 "Row a, position 7", A8 A7 "Row a, position 8", A9 A8 "Row a, position 9", A10 A9 "Row a, position 10", A11 A10 "Row a, position 11", A12 A11 "Row a, position 12", A13 A12 "Row a, position 13", A14 A13 "Row a, position 14", A15 A14 "Row a, position 15", A16 A15 "Row a, position 16", A17 A16 "Row a, position 17", A18 A17 "Row a, position 18", A19 A18 "Row a, position 19", A20 A19 "Row a, position 20", A21 A20 "Row a, position 21", A22 A21 "Row a, position 22", A23 A22 "Row a, position 23", A24 A23 "Row a, position 24", A25 ~{PERIPH_RESET} "Peripheral reset, active low (source: PERIPH_RESET_n)", A26 ~{EXP_IRQ} "Expansion interrupt request, active low (source: EXP_IRQ_n)", C2 D0 "Row c, position 2", C3 D1 "Row c, position 3", C4 D2 "Row c, position 4", C5 D3 "Row c, position 5", C6 D4 "Row c, position 6", C7 D5 "Row c, position 7", C8 D6 "Row c, position 8", C9 D7 "Row c, position 9", C10 D8 "Row c, position 10", C11 D9 "Row c, position 11", C12 D10 "Row c, position 12", C13 D11 "Row c, position 13", C14 D12 "Row c, position 14", C15 D13 "Row c, position 15", C16 D14 "Row c, position 16", C17 D15 "Row c, position 17", C18 ~{AS} "Address strobe, active low (source: AS_n)", C19 R/~{W} "Read high / write low (source: R_W)", C20 ~{UDS} "Upper data strobe, active low (source: UDS_n)", C21 ~{LDS} "Lower data strobe, active low (source: LDS_n)", C22 ~{MEM_SEL} "Memory select, active low (source: MEM_SEL_n)", C23 ~{IO_SEL} "I/O select, active low (source: IO_SEL_n)", C24 EXP_CLK_10 "Expansion clock (source: EXP_CLK_10)", C25 ~{CARD_DTACK} "Card DTACK, active low (source: CARD_DTACK_n)"
part B pins: A1 +5V, A27 +5V, A28 +5V, A29 GND, A30 +12V, A31 +12V, A32 GND, B1 GND, B2 GND, B3 GND, B4 GND, B5 GND, B6 GND, B7 GND, B8 GND, B9 GND, B10 GND, B11 GND, B12 GND, B13 GND, B14 GND, B15 GND, B16 GND, B17 GND, B18 GND, B19 GND, B20 GND, B21 GND, B22 GND, B23 GND, B24 GND, B25 GND, B26 GND, B27 GND, B28 GND, B29 GND, B30 GND, B31 GND, B32 GND, C1 +5V, C26 GND, C27 +5V, C28 +5V, C29 GND, C30 +12V, C31 +12V, C32 GND
part A text: BUS; ADDRESS; DATA; CONTROL
part B text: POWER; GND (ROW B); GND (ROWS A/C)

## FDD34_PC_TWIST_HOST
designator J?
34-pin keyed floppy interface header, controller (host) side, IBM PC pin names for a twisted cable (drive A after twist, drive B straight). For 82077AA-1 driving Mitsumi D359M3D drives.; Pin Source: IBM PC 34-pin floppy interface; D359M3D pin 2/12/34 behaviour per msxinfo.net and msx.org modification notes; no Mitsumi pin table obtained; Manufacturer Part Number: FDD34_PC_TWIST_HOST; Package: 2x17 IDC box header, 2.54 mm, keyed
footprint AMPHENOL_75869-106LF (Amphenol FCI Quickie 75869-106LF shrouded header, low profile, vertical THT, 2x17 = 34 pos, 2.54 mm. Top view; origin = centre of pin field. Odd pins row at -Y, pin 1 at -X; polarization key slot on odd-row side.)
pins: 1 GND "Ground (signal return)", 2 DENSEL "Density select, controller to drive (82077AA DENSEL; polarity programmable). Use on D359M3D not confirmed from a Mitsumi pin table", 3 GND "Ground (signal return)", 4 NC "Not used on PC 3.5 in interface", 5 GND "Ground (signal return)", 6 NC "Not used on PC 3.5 in interface", 7 GND "Ground (signal return)", 8 ~{INDEX} "Index pulse, drive to controller, open collector", 9 GND "Ground (signal return)", 10 ~{MOTEA} "Motor enable A, controller to drive (82077AA ME0#). Reaches drive pin 16 (MOTOR ON) through the cable twist", 11 GND "Ground (signal return)", 12 ~{DRVSB} "Drive select B, controller to drive (82077AA DS1#). Straight-through to drive pin 12 (DS1)", 13 GND "Ground (signal return)", 14 ~{DRVSA} "Drive select A, controller to drive (82077AA DS0#). Reaches drive pin 12 (DS1) through the cable twist", 15 GND "Ground (signal return)", 16 ~{MOTEB} "Motor enable B, controller to drive (82077AA ME1#). Straight-through to drive pin 16 (MOTOR ON)", 17 GND "Ground (signal return)", 18 ~{DIR} "Step direction, controller to drive", 19 GND "Ground (signal return)", 20 ~{STEP} "Step pulse, controller to drive", 21 GND "Ground (signal return)", 22 ~{WDATA} "Write data, controller to drive", 23 GND "Ground (signal return)", 24 ~{WGATE} "Write gate, controller to drive", 25 GND "Ground (signal return)", 26 ~{TRK00} "Track 0, drive to controller, open collector", 27 GND "Ground (signal return)", 28 ~{WPT} "Write protect, drive to controller, open collector", 29 GND "Ground (signal return)", 30 ~{RDATA} "Read data, drive to controller, open collector", 31 GND "Ground (signal return)", 32 ~{SIDE1} "Head/side select (low = side 1), controller to drive (82077AA HDSEL)", 33 GND "Ground (signal return)", 34 ~{DSKCHG} "Disk change, drive to controller, open collector (D359M3D stock function per MSX modification notes)"
text: TO DRIVE; FROM DRIVE; GROUND; UNUSED

## FERRITE
designator FB?, comment Ferrite Bead
pins: 1, 2

## FUSE
designator F?, comment Fuse
pins: 1, 2

## HM514260CJ-7
designator U?
256K x 16 DRAM, fast page mode, 70 ns, 5 V, 40-pin SOJ; Manufacturer: Hitachi; Symbol Parts: A: DRAM 256K x 16; Manufacturer Part Number: HM514260CJ-7; Package: SOJ-40 (CJ)
footprint SOJ127P1117X376-40M (SOJ, 40-Leads, Body 26.16x11.17mm, Pitch 1.27mm, IPC Low Density)
pins: 1 VCC (power), 2 I/O0 (io), 3 I/O1 (io), 4 I/O2 (io), 5 I/O3 (io), 6 VCC (power), 7 I/O4 (io), 8 I/O5 (io), 9 I/O6 (io), 10 I/O7 (io), 11 NC "No connection", 12 NC "No connection", 13 ~{WE} (in), 14 ~{RAS} (in), 15 NC "No connection", 16 A0 (in), 17 A1 (in), 18 A2 (in), 19 A3 (in), 20 VCC (power), 21 VSS (power), 22 A4 (in), 23 A5 (in), 24 A6 (in), 25 A7 (in), 26 A8 (in), 27 ~{OE} (in), 28 ~{UCAS} (in) "Upper byte column strobe (I/O8-I/O15)", 29 ~{LCAS} (in) "Lower byte column strobe (I/O0-I/O7)", 30 NC "No connection", 31 I/O8 (io), 32 I/O9 (io), 33 I/O10 (io), 34 I/O11 (io), 35 VSS (power), 36 I/O12 (io), 37 I/O13 (io), 38 I/O14 (io), 39 I/O15 (io), 40 VSS (power)
text: DRAM 256K x 16; ADDRESS; DATA; CONTROL; POWER

## IND
designator L?, comment Inductor
pins: 1, 2

## KMDGX-6S-BS
designator J?
Kycon 6-position right-angle Mini-DIN receptacle, fully shielded, THT - PS/2 keyboard pinout; Pin Source: Kycon KMDGX-xS-BS drawing; PS/2 functions mapped by contact position (Kycon 1,2,3,5,6,8 = PS/2 1,2,3,4,5,6); Manufacturer: Kycon; Manufacturer Part Number: KMDGX-6S-BS; Package: Mini-DIN 6, right angle, fully shielded, THT; Datasheet: Kycon drawing KMDGX-xS-BS rev C6 (03/05/18)
footprint KMDGX-6S-BS (Kycon KMDGX-6S-BS right-angle Mini-DIN 6 receptacle, fully shielded, THT)
pins: 1 DATA "PS/2 pin 1 - Data", 2 NC "PS/2 pin 2 - not connected (reserved)", 3 GND "PS/2 pin 3 - Ground", 5 +5V "PS/2 pin 4 - +5 V supply (Kycon contact 5)", 6 CLK "PS/2 pin 5 - Clock (Kycon contact 6)", 8 NC "PS/2 pin 6 - not connected (reserved) (Kycon contact 8)", SH1 SHIELD "Shell tab, left", SH2 SHIELD "Shell tab, right", SH3 SHIELD "Shell tab, centre"
text: PS/2

## L77HDE15SD1CH4FVGA
designator J?
Amphenol ICC L77HDE15SD1CH4FVGA - 15 way high density D-Sub receptacle (socket), E shell, right angle PCB through hole, 4-40 front screwlock with ground tab boardlock; pins named for the VGA / DDC2B video interface; Manufacturer: Amphenol ICC (Commercial Products); Value: VGA HD-15 SOCKET; Pinout standard: VGA / DDC2B (VESA E-DDC), DE-15HD; Mating: HD D-Sub 15 plug, 4-40 jackscrews; Manufacturer Part Number: L77HDE15SD1CH4FVGA; Package: HD D-Sub 15, E shell, right angle THT, 0.350 in (8.89 mm) footprint; Datasheet: https://cdn.amphenol-cs.com/media/wysiwyg/files/documentation/datasheet/inputoutput/io_d_sub_hd_stamped_formed_right_angle.pdf
footprint L77HDE15SD1CH4FVGA (Amphenol L77HDE15SD1CH4FVGA, HD D-Sub 15 (DE-15/VGA) socket, right angle, D1 8.89 mm, CH boardlock, 4-40 front screwlock. Top view; origin = shell centerline on middle pin row; board edge at -Y.)
pins: 1 RED "Red analog video, 0.7 Vpp into 75 ohm", 2 GREEN "Green analog video, 0.7 Vpp into 75 ohm; carries sync-on-green when used", 3 BLUE "Blue analog video, 0.7 Vpp into 75 ohm", 4 ID2 "Legacy monitor ID bit 2; reserved (no connect) under DDC2B", 5 GND "Ground; conventionally the HSync return, also used for cable self-test / detect", 6 RED_RTN "Red video coax return / ground", 7 GRN_RTN "Green video coax return / ground", 8 BLU_RTN "Blue video coax return / ground", 9 +5V_DDC "+5 V DDC/EDID supply from the video source; legacy key pin", 10 GND_SYNC "Ground; conventionally the VSync and DDC/EDID return", 11 ID0 "Legacy monitor ID bit 0; reserved (no connect) under DDC2B", 12 DDC_SDA "DDC2B I2C data (legacy monitor ID bit 1)", 13 HSYNC "Horizontal sync (or composite sync), TTL", 14 VSYNC "Vertical sync, TTL", 15 DDC_SCL "DDC2B I2C clock (legacy monitor ID bit 3)", SH1 SHELL "Connector shell / 4-40 front screwlock ground tab boardlock, left hand side", SH2 SHELL "Connector shell / 4-40 front screwlock ground tab boardlock, right hand side"
text: ANALOG VIDEO; VIDEO RETURNS; SYNC; DDC / EDID; GROUND / RESERVED

## LD09P33E4GV00LF_RS232
designator J?
Amphenol FCI LD09P33E4GV00LF, DE-9 male (plug), right angle THT, 4-40 female screws, harpoons with shell continuity. RS-232 DTE pin names per TIA-574 (male = DTE).; Manufacturer: Amphenol FCI; Manufacturer Part Number: LD09P33E4GV00LF; Package: DE-9 male right angle, 2.74 x 2.84 mm, 8.08 mm footprint; Datasheet: FCI drawing 10130914 rev B
footprint LD09P33E4GV00LF (Amphenol FCI LD09P33E4GV00LF DE-9 male right angle THT. Top view; origin = midpoint of harpoon holes; board edge at y=-9.50 (mating face toward -Y). Pin 1 rear row, -X.)
pins: 1 DCD "Data carrier detect, DTE input", 2 RXD "Receive data, DTE input", 3 TXD "Transmit data, DTE output", 4 DTR "Data terminal ready, DTE output", 5 GND "Signal ground", 6 DSR "Data set ready, DTE input", 7 RTS "Request to send, DTE output", 8 CTS "Clear to send, DTE input", 9 RI "Ring indicator, DTE input", SH1 SHELL "Shell/harpoon, left mounting hole (continuity to shell)", SH2 SHELL "Shell/harpoon, right mounting hole (continuity to shell)"
text: DATA; HANDSHAKE; GROUND

## LED
designator D?
pins: 1 A, 2 K

## LT1054CN8
designator U?
Switched-capacitor voltage converter; SourcePDF: lt1054.pdf; SourcePages: 3; ReviewNotes: Draft symbol; user pinout review pending.; ReviewStatus: DRAFT - user review pending; Package: DIP-8
footprint 110-93-308-41-001000 (Mill-Max 110 open-frame DIP socket; 8 pins; pitch 2.54mm; row 7.62mm; plated hole 0.80mm; pad 1.60mm; center origin)
pins: 1 FB/SD (in), 2 CAP+, 3 GND (power), 4 CAP-, 5 VOUT (out), 6 VREF (out), 7 OSC (in), 8 VCC (power)

## MACH210-15JC
designator U?
High-Density EE CMOS Programmable Logic, 64 macrocells, 32 I/O, 44-pin PLCC, -15 speed grade, commercial (J = PLCC, C = commercial); Manufacturer: Advanced Micro Devices; Manufacturer Part Number: MACH210-15JC; Package: PLCC-44
footprint 54020-44030LF (FCI / Amphenol 54020-44030LF (PLCC-44P-T), PLCC-44 THT DIP socket; drawing 54020 rev K sheet 1/2. From drawing: body A x B = 23.18 x 23.18 mm, 2.54 mm grid, C = D = 12.70 mm inner hole ring, 44 plated 1.00 +0.10/-0.00 mm holes, height 8.15 mm above seating plane. Derived, not illustrated: the sheet's PCB-layout view is drawn for 68 positions, so the 44 grid was derived from C/D plus the 2.54 grid - 8 x 8, two-deep band, four outer corners omitted, outer ring +/-8.89. Assumed: JEDEC PLCC numbering (pin 1 contact at top centre, counter-clockwise, top view) with the staggered tail rule - contacts on the grid drop straight to the outer ring, contacts between grid columns jog 1.27 mm in the side's clockwise-tangent direction onto the inner ring; pad 1 therefore sits at (1.27, 6.35), not at top centre. Drawing carries no pin numbers; map matches KiCad PLCC-44_THT-Socket on all 44 pads. Chosen: 1.70 mm round pads (square on pin 1), 0.075 mm mask expansion. Origin at body centre. M2 component outline, M9 assembly, M11 designator, M15 courtyard.)
pins: 1 GND (power), 2 I/O0 (io), 3 I/O1 (io), 4 I/O2 (io), 5 I/O3 (io), 6 I/O4 (io), 7 I/O5 (io), 8 I/O6 (io), 9 I/O7 (io), 10 I0 (in), 11 I1 (in), 12 GND (power), 13 CLK0/I2 (in) "Clock 0 or dedicated logic input I2", 14 I/O8 (io), 15 I/O9 (io), 16 I/O10 (io), 17 I/O11 (io), 18 I/O12 (io), 19 I/O13 (io), 20 I/O14 (io), 21 I/O15 (io), 22 VCC (power), 23 GND (power), 24 I/O16 (io), 25 I/O17 (io), 26 I/O18 (io), 27 I/O19 (io), 28 I/O20 (io), 29 I/O21 (io), 30 I/O22 (io), 31 I/O23 (io), 32 I3 (in), 33 I4 (in), 34 GND (power), 35 CLK1/I5 (in) "Clock 1 or dedicated logic input I5", 36 I/O24 (io), 37 I/O25 (io), 38 I/O26 (io), 39 I/O27 (io), 40 I/O28 (io), 41 I/O29 (io), 42 I/O30 (io), 43 I/O31 (io), 44 VCC (power)
text: DEDICATED INPUTS; PAL BLOCK C; PAL BLOCK A; PAL BLOCK D; PAL BLOCK B; POWER

## MAX232CPE
designator U?
Dual EIA-232 (RS-232) Driver/Receiver with internal charge-pump voltage converter; Manufacturer: Maxim Integrated / Texas Instruments; Manufacturer Part Number: MAX232CPE; Package: 16-pin plastic DIP (PDIP), 0C to 70C; Datasheet: https://www.ti.com/lit/ds/symlink/max232.pdf
footprint 110-93-316-41-001000 (Mill-Max 110 open-frame DIP socket; 16 pins; pitch 2.54mm; row 7.62mm; plated hole 0.80mm; pad 1.60mm; center origin)
pins: 1 C1+ "Positive terminal of charge-pump capacitor 1", 2 V+ (power) "Internally generated +10V supply from charge pump, decoupled to ground with external capacitor", 3 C1- "Negative terminal of charge-pump capacitor 1", 4 C2+ "Positive terminal of charge-pump capacitor 2", 5 C2- "Negative terminal of charge-pump capacitor 2", 6 V- (power) "Internally generated -10V supply from charge pump, decoupled to ground with external capacitor", 7 T2OUT (out) "EIA-232-level transmit output, driver 2", 8 R2IN (in) "EIA-232-level receive input, receiver 2", 9 R2OUT (out) "TTL/CMOS-level receive data output, receiver 2", 10 T2IN (in) "TTL/CMOS-level transmit data input, driver 2", 11 T1IN (in) "TTL/CMOS-level transmit data input, driver 1", 12 R1OUT (out) "TTL/CMOS-level receive data output, receiver 1", 13 R1IN (in) "EIA-232-level receive input, receiver 1", 14 T1OUT (out) "EIA-232-level transmit output, driver 1", 15 GND (power), 16 VCC (power) "Supply voltage, +5V"
text: DRIVER INPUTS (TTL); DRIVER OUTPUTS (RS-232); RECEIVER OUTPUTS (TTL); RECEIVER INPUTS (RS-232); CHARGE PUMP; INTERNAL SUPPLY; POWER

## MC68EC000FN10
designator U?
Motorola MC68EC000, 68-pin PLCC; Symbol Parts: A: ADDRESS / DATA BUS; B: BUS / SYSTEM CONTROL; C: POWER / NO CONNECT; Pin Source: User-supplied 68-pin MC68EC000 PLCC diagram; MC68000 user manual signal definitions.; Manufacturer: Motorola; Manufacturer Part Number: MC68EC000; Package: 68-pin PLCC; Datasheet: https://www.nxp.com/docs/en/reference-manual/MC68000UM.pdf
footprint A-CCS-068-Z-T (Assmann A-CCS 068-Z-T, PLCC-68 THT socket for MC68EC000; ASS 0981 CO rev11; body 30.80 x 30.80 mm; 2.54 mm PCB grid; 68 plated 0.80 mm holes / 1.60 mm pads; pin 1 top center, top view; M2 component outline, M9 assembly, M11 designator, M15 courtyard; user component layer pairs; maximum height 8.43 mm.)
part A pins: 2 D4 (io), 3 D3 (io), 4 D2 (io), 5 D1 (io), 6 D0 (io), 31 A0 (hiz), 32 A1 (hiz), 33 A2 (hiz), 34 A3 (hiz), 36 A4 (hiz), 37 A5 (hiz), 38 A6 (hiz), 39 A7 (hiz), 40 A8 (hiz), 41 A9 (hiz), 42 A10 (hiz), 43 A11 (hiz), 44 A12 (hiz), 45 A13 (hiz), 46 A14 (hiz), 47 A15 (hiz), 48 A16 (hiz), 49 A17 (hiz), 50 A18 (hiz), 51 A19 (hiz), 52 A20 (hiz), 54 A21 (hiz), 55 A22 (hiz), 56 A23 (hiz), 58 D15 (io), 59 D14 (io), 60 D13 (io), 61 D12 (io), 62 D11 (io), 63 D10 (io), 64 D9 (io), 65 D8 (io), 66 D7 (io), 67 D6 (io), 68 D5 (io)
part B pins: 7 ~{AS} (hiz), 8 ~{UDS} (hiz), 9 ~{LDS} (hiz), 10 R/~{W} (hiz) "High selects read; low selects write.", 11 ~{DTACK} (in) "Active-low data-transfer acknowledge.", 12 ~{BG} (out), 13 ~{BR} (in), 16 CLK (in), 19 MODE (in) "Static data bus width selection: low = 8-bit; high = 16-bit.", 20 ~{HALT} (io) "Bidirectional active-low halt, open-drain output.", 21 ~{RESET} (io) "Bidirectional active-low reset, open-drain output.", 23 ~{AVEC} (in) "Active-low autovector request.", 24 ~{BERR} (in) "Active-low bus error.", 25 ~{IPL2} (in), 26 ~{IPL1} (in), 27 ~{IPL0} (in), 28 FC2 (hiz), 29 FC1 (hiz), 30 FC0 (hiz)
part C pins: 1 GND (power), 14 VCC (power), 15 VCC (power), 17 GND (power), 18 GND (power), 22 NC "No internal connection. Leave unconnected.", 35 GND (power), 53 VCC (power), 57 GND (power)
part A text: ADDRESS / DATA BUS; DATA; ADDRESS
part B text: BUS / SYSTEM CONTROL; CLOCK / MODE; BUS CYCLE; SYSTEM; FUNCTION CODE; INTERRUPTS; BUS GRANT; BUS ARBITRATION
part C text: POWER / NO CONNECT; +5V; GROUND; NO CONNECT

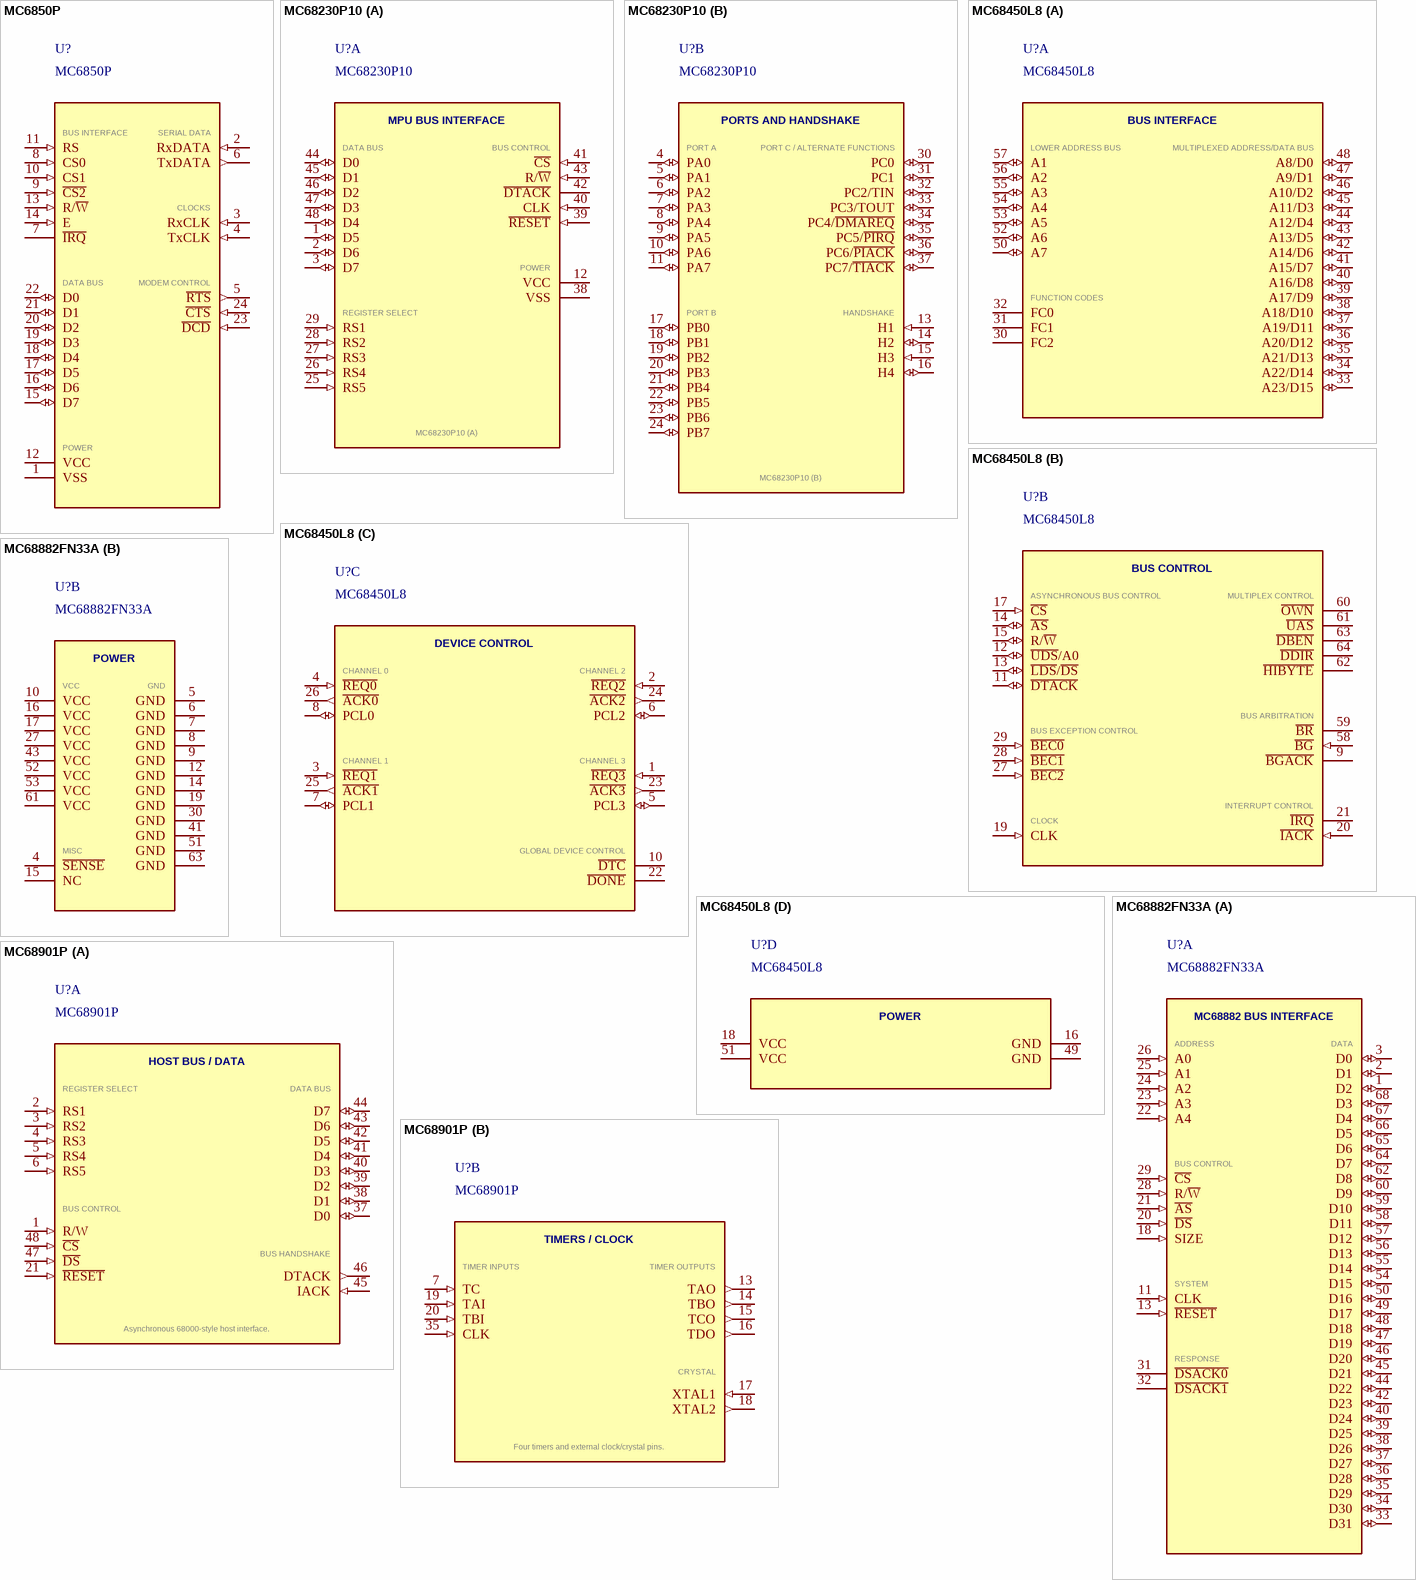
[diagram p3: symbols MC6850P to MC68901P]

## MC6850P
designator U?
Asynchronous Communications Interface Adapter (ACIA); Manufacturer: Motorola; Manufacturer Part Number: MC6850P; Package: 24-pin plastic DIP; Datasheet: https://archive.org/details/Motorola_MC6850_ACIA_1985
footprint 110-93-624-41-001000 (Mill-Max 110 open-frame DIP socket; 24 pins; pitch 2.54mm; row 15.24mm; plated hole 0.80mm; pad 1.60mm; center origin)
pins: 1 VSS (power), 2 RxDATA (in) "Serial data input from the communications channel", 3 RxCLK (in) "Receive clock input (1x, 16x, or 64x the bit rate)", 4 TxCLK (in) "Transmit clock input (1x, 16x, or 64x the bit rate)", 5 ~{RTS} (out) "Request To Send, active low, controlled by the Control Register", 6 TxDATA (out) "Serial data output to the communications channel", 7 ~{IRQ} (oc) "Interrupt Request, active low, open-drain output", 8 CS0 (in) "Chip Select 0, active high", 9 ~{CS2} (in) "Chip Select 2, active low", 10 CS1 (in) "Chip Select 1, active high", 11 RS (in) "Register Select: low selects Control/Status register, high selects Transmit/Receive Data register", 12 VCC (power), 13 R/~{W} (in) "Read/Write from CPU: high = read, low = write", 14 E (in) "Enable: bus timing strobe from CPU", 15 D7 (io), 16 D6 (io), 17 D5 (io), 18 D4 (io), 19 D3 (io), 20 D2 (io), 21 D1 (io), 22 D0 (io), 23 ~{DCD} (in) "Data Carrier Detect, active low; a low-to-high transition sets the receiver interrupt", 24 ~{CTS} (in) "Clear To Send, active low; forces the Transmit Data Register Empty status inactive when high"
text: BUS INTERFACE; SERIAL DATA; CLOCKS; DATA BUS; MODEM CONTROL; POWER

## MC68230P10
designator U?
Parallel Interface/Timer (PI/T), 10 MHz, 48-pin plastic DIP; Manufacturer: Motorola; Symbol Parts: A: MPU BUS INTERFACE; B: PORTS AND HANDSHAKE; Manufacturer Part Number: MC68230P10; Package: 48-pin plastic dual in-line (P suffix); Datasheet: MC68230 Parallel Interface/Timer advance information (archive) - Section 7.1 Pin Assignment; Table 1-2 Signal Summary
footprint 110-93-648-41-001000 (Mill-Max 110 open-frame DIP socket; 48 pins; pitch 2.54mm; row 15.24mm; plated hole 0.80mm; pad 1.60mm; center origin)
part A pins: 1 D5 (io) "Bidirectional data bus, three-state; high = 1, low = 0.", 2 D6 (io) "Bidirectional data bus, three-state; high = 1, low = 0.", 3 D7 (io) "Bidirectional data bus, three-state; high = 1, low = 0.", 12 VCC (power) "Power supply.", 25 RS5 (in) "Register select input, level sensitive; high = 1, low = 0.", 26 RS4 (in) "Register select input, level sensitive; high = 1, low = 0.", 27 RS3 (in) "Register select input, level sensitive; high = 1, low = 0.", 28 RS2 (in) "Register select input, level sensitive; high = 1, low = 0.", 29 RS1 (in) "Register select input, level sensitive; high = 1, low = 0.", 38 VSS (power) "Ground.", 39 ~{RESET} (in) "Reset, active low, level sensitive.", 40 CLK (in) "System clock input; falling and rising edge sensitive.", 41 ~{CS} (in) "Chip select, active low, level sensitive.", 42 ~{DTACK} (hiz) "Data transfer acknowledge, active low. Output states high, low, high impedance; pullup resistor required.", 43 R/~{W} (in) "Read/write, level sensitive; high = read, low = write.", 44 D0 (io) "Bidirectional data bus, three-state; high = 1, low = 0.", 45 D1 (io) "Bidirectional data bus, three-state; high = 1, low = 0.", 46 D2 (io) "Bidirectional data bus, three-state; high = 1, low = 0.", 47 D3 (io) "Bidirectional data bus, three-state; high = 1, low = 0.", 48 D4 (io) "Bidirectional data bus, three-state; high = 1, low = 0."
part B pins: 4 PA0 (io) "Port A, level sensitive; input/output or input-or-output depending on mode. Internal pullup resistor. High = 1, low = 0.", 5 PA1 (io) "Port A, level sensitive; input/output or input-or-output depending on mode. Internal pullup resistor. High = 1, low = 0.", 6 PA2 (io) "Port A, level sensitive; input/output or input-or-output depending on mode. Internal pullup resistor. High = 1, low = 0.", 7 PA3 (io) "Port A, level sensitive; input/output or input-or-output depending on mode. Internal pullup resistor. High = 1, low = 0.", 8 PA4 (io) "Port A, level sensitive; input/output or input-or-output depending on mode. Internal pullup resistor. High = 1, low = 0.", 9 PA5 (io) "Port A, level sensitive; input/output or input-or-output depending on mode. Internal pullup resistor. High = 1, low = 0.", 10 PA6 (io) "Port A, level sensitive; input/output or input-or-output depending on mode. Internal pullup resistor. High = 1, low = 0.", 11 PA7 (io) "Port A, level sensitive; input/output or input-or-output depending on mode. Internal pullup resistor. High = 1, low = 0.", 13 H1 (in) "Handshake input, asserted edge sensitive; programmable active low or high. H1 is level sensitive for output buffer control in modes 2 and 3.", 14 H2 (io) "Handshake, input or output, asserted edge sensitive; programmable active low or high. Internal pullup resistor. Output states high, low, high impedance.", 15 H3 (in) "Handshake input, asserted edge sensitive; programmable active low or high.", 16 H4 (io) "Handshake, input or output, asserted edge sensitive; programmable active low or high. Internal pullup resistor. Output states high, low, high impedance.", 17 PB0 (io) "Port B, level sensitive; input/output or input-or-output depending on mode. Internal pullup resistor. High = 1, low = 0.", 18 PB1 (io) "Port B, level sensitive; input/output or input-or-output depending on mode. Internal pullup resistor. High = 1, low = 0.", 19 PB2 (io) "Port B, level sensitive; input/output or input-or-output depending on mode. Internal pullup resistor. High = 1, low = 0.", 20 PB3 (io) "Port B, level sensitive; input/output or input-or-output depending on mode. Internal pullup resistor. High = 1, low = 0.", 21 PB4 (io) "Port B, level sensitive; input/output or input-or-output depending on mode. Internal pullup resistor. High = 1, low = 0.", 22 PB5 (io) "Port B, level sensitive; input/output or input-or-output depending on mode. Internal pullup resistor. High = 1, low = 0.", 23 PB6 (io) "Port B, level sensitive; input/output or input-or-output depending on mode. Internal pullup resistor. High = 1, low = 0.", 24 PB7 (io) "Port B, level sensitive; input/output or input-or-output depending on mode. Internal pullup resistor. High = 1, low = 0.", 30 PC0 (io) "Port C, level sensitive; input/output or input-or-output depending on mode. High = 1, low = 0.", 31 PC1 (io) "Port C, level sensitive; input/output or input-or-output depending on mode. High = 1, low = 0.", 32 PC2/TIN (io) "Port C bit 2, or timer input TIN. As external clock TIN is rising-edge sensitive; as run/halt TIN is level sensitive, active high.", 33 PC3/TOUT (io) "Port C bit 3, or timer output TOUT. As square wave: output states high and low. As timer interrupt request TIRQ: active low, output states low and high impedance, pullup resistor required.", 34 PC4/~{DMAREQ} (io) "Port C bit 4, or DMA request DMAREQ, active low. Output states high and low.", 35 PC5/~{PIRQ} (io) "Port C bit 5, or port interrupt request PIRQ, active low. Output states low and high impedance; pullup resistor required.", 36 PC6/~{PIACK} (io) "Port C bit 6, or port interrupt acknowledge PIACK input, active low, level sensitive.", 37 PC7/~{TIACK} (io) "Port C bit 7, or timer interrupt acknowledge TIACK input, active low, level sensitive."
part A text: MPU BUS INTERFACE; DATA BUS; BUS CONTROL; POWER; REGISTER SELECT; MC68230P10 (A)
part B text: PORTS AND HANDSHAKE; PORT A; PORT C / ALTERNATE FUNCTIONS; PORT B; HANDSHAKE; MC68230P10 (B)